# Altium schematic symbol library MOS-FET.SchLib: 71 symbols
Pins are listed as number, name and electrical type; pins without a type are passive.

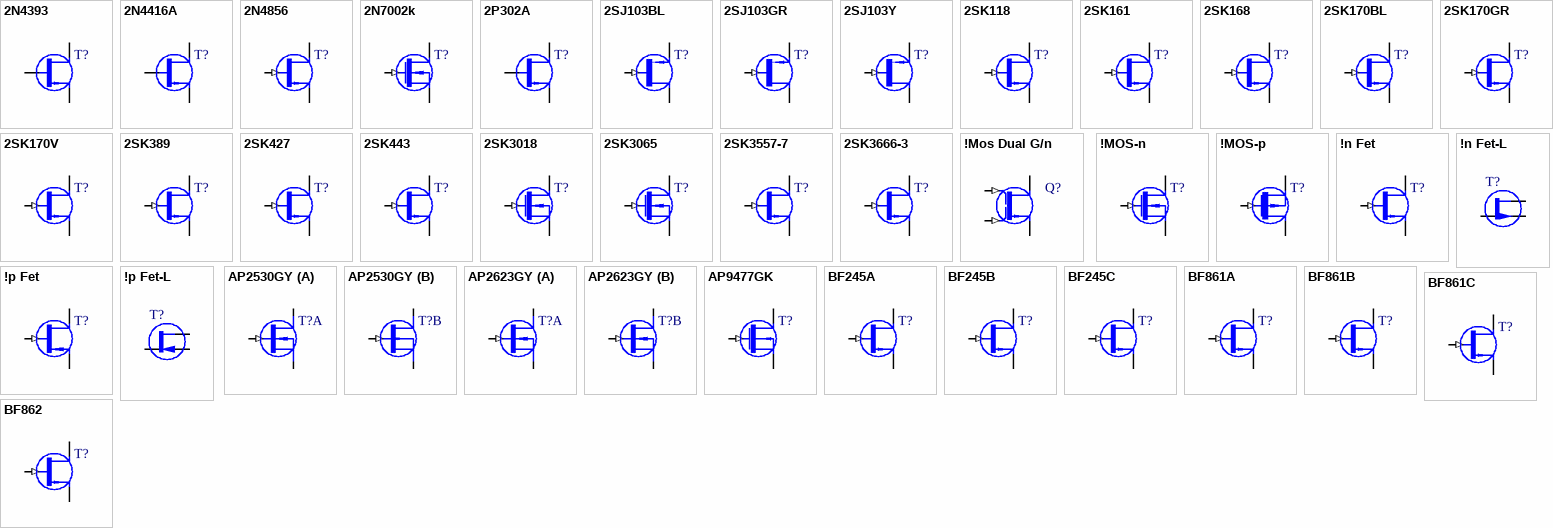
[diagram p0: symbols 2N4393 to BF862]

## 2N4393
designator T?
N-JFET 0.5-3V 100om 5-30mA 3.5p 40V; price: 0.5
footprint TO92C
simulation model J2N4393 (MODEL)
footprint TO92
pins: 1 S (oe), 2 D (oc), 3 G
1 alternate drawing of the same symbol

## 2N4416A
designator T?
N-JFET 2.5-6V 100om 5-15mA 0.8p 35V; price: 0.5
footprint TO92C
simulation model J2N4416A (MODEL)
footprint TO92
pins: 1 S (oe), 2 D (oc), 3 G
1 alternate drawing of the same symbol

## 2N4856
designator T?
N-JFET 4-10V  25om 50-125mA 3p 40V; price: 0.5
footprint TO92C
simulation model J2N4856 (MODEL)
footprint TO92
pins: 1 S (oe), 2 D (oc), 3 G (in)
1 alternate drawing of the same symbol

## 2N7002k
designator T?
N-MOS 60V 7.5om 0.115mA; price: 0.04
footprint SOT23
simulation model 2N7002k (SubCkt)
pins: 1 G (in), 2 S (oe), 3 D (oc)

## 2P302A
designator T?
N-JFET 5V  3-24mA 8p 20V; price: 0.5
footprint TO92C
simulation model 2P302A (MODEL)
footprint TO92
pins: 1 S (oe), 2 D (oc), 3 G
1 alternate drawing of the same symbol

## 2SJ103BL
designator T?
P-JFET 50V 6-14mA 4mS Ci-18p Cr-3.6p; price: 0.5
footprint TO92C1
simulation model 2SJ103BL (Model Description)
pins: 1 S (oe), 2 G (in), 3 D (oc)
1 alternate drawing of the same symbol

## 2SJ103GR
designator T?
P-JFET 50V 2.6-6.5mA 4mS Ci-18p Cr-3.6p; price: 0.5
footprint TO92C1
simulation model 2SJ103GR (Model Description)
pins: 1 S (oe), 2 G (in), 3 D (oc)
1 alternate drawing of the same symbol

## 2SJ103Y
designator T?
P-JFET 50V 1.2-3mA 4mS Ci-18p Cr-3.6p; price: 0.5
footprint TO92C1
simulation model 2SJ103Y (Model Description)
pins: 1 S (oe), 2 G (in), 3 D (oc)
1 alternate drawing of the same symbol

## 2SK118
designator T?
N-JFET 50V 0.3-6mA 1.2mS Ci-8.2p Cr-2.6p 0.5dB; price: 1
footprint E-Line 2.54
pins: 1 S (oe), 2 G (in), 3 D (oc)
1 alternate drawing of the same symbol

## 2SK161
designator T?
N-JFET 18V 10mA 9mS Ci-6p Cr-0.1p 2.5dB(100MHz); price: 1
footprint E-Line-F
pins: 1 G (in), 2 S (oe), 3 D (oc)
1 alternate drawing of the same symbol

## 2SK168
designator T?
N-JFET 0.5V 4-20mA 0.1p; price: 0.5
footprint TO92CF
pins: 1 D (oc), 2 S (oe), 3 G (in)
1 alternate drawing of the same symbol

## 2SK170BL
designator T?
N-JFET 40V 6-12mA 22mS Ci-30p Cr-6p 0.5dB; price: 1
footprint SOT23 (SOT-23; 3 Leads; Body 3.0 x 2.6 mm Pitch 0.95mm)
simulation model 2SK170BL (Model Description)
pins: 1 S (oe), 2 D (oc), 3 G (in)
1 alternate drawing of the same symbol

## 2SK170GR
designator T?
N-JFET 40V 2.6-6.5mA 22mS Ci-30p Cr-6p 0.5dB; price: 1
footprint SOT23 (http://www.nxp.com/acrobat_download/packages/SOT23.pdf)
simulation model 2SK170GR (Model Description)
pins: 1 S (oe), 2 D (oc), 3 G (in)
1 alternate drawing of the same symbol

## 2SK170V
designator T?
N-JFET 40V 10-20mA 22mS Ci-30p Cr-6p 0.5dB; price: 1
footprint SOT23 (SOT-23; 3 Leads; Body 3.0 x 2.6 mm Pitch 0.95mm)
simulation model 2SK170V (Model Description)
pins: 1 S (oe), 2 D (oc), 3 G (in)
1 alternate drawing of the same symbol

## 2SK389
designator T?
N-JFET 15V 50mA 30mS Ci-9p Cr-2.8p 1dB; price: 1
footprint SOT23 (http://www.nxp.com/acrobat_download/packages/SOT23.pdf)
simulation model J2SK389 (Model Description)
pins: 1 S (oe), 2 D (oc), 3 G (in)
1 alternate drawing of the same symbol

## 2SK427
designator T?
N-JFET 15V 20mA 17mS Ci-7p Cr-2p 1.5dB; price: 1
footprint E-Line 2.54
simulation model J2sk427 (Model Description)
pins: 1 S (oe), 2 G (in), 3 D (oc)
1 alternate drawing of the same symbol

## 2SK443
designator T?
N-JFET 15V 50mA 30mS Ci-9p Cr-2.8p 1dB; price: 1
footprint SOT23
simulation model J2SK443 (Model Description)
pins: 1 S (oe), 2 D (oc), 3 G (in)
1 alternate drawing of the same symbol

## 2SK3018
designator T?
N-MOS 30V 0.1A 7om 0.8-1.5V 4pF; Price: 0.1
footprint SOT323 (SOT-323/SC-70; 3 Leads; Body 2.2 x 2.2 mm, inc. leads (LxW max))
simulation model Q2SK3018 (Model Description)
pins: 1 G (in), 2 S (oe), 3 D (oc)

## 2SK3065
designator T?
N-MOS 60V 2A 0.25oM/4V 0.35oM/2.5V; price: 0.7
footprint SOT89 (SC-62)
pins: 1 G (in), 2 D (oc), 3 S (oe)

## 2SK3557-7
designator T?
N-JFET 15V 50mA 35mS Ci-10p Cr-2.9p 1dB; price: 1
footprint SOT23 (Footprint not found)
pins: 1 S (oe), 2 D (oc), 3 G (in)
1 alternate drawing of the same symbol

## 2SK3666-3
designator T?
N-JFET 30V 1.2-3mA 3-6.5mS Ci-4p Cr-1.1p; price: 1
footprint SOT23
pins: 1 S (oe), 2 D (oc), 3 G (in)
1 alternate drawing of the same symbol

## !Mos Dual G/n
designator Q?
N-MOS Dual gate
footprint TO50-4-100
pins: 1 S (oe), 2 G1 (in), 3 G2 (in), 4 D (oc)

## !MOS-n
designator T?
P-MOS
footprint TO220-1A 2.54
pins: 1 G (in), 2 D (oc), 3 S (oe)

## !MOS-p
designator T?
P-MOS
footprint TO220-1A 2.54
pins: 1 G (in), 2 D (oc), 3 S (oe)

## !n Fet
designator T?
N-JFET; price: 0.5
footprint TO92C
pins: 1 S (oe), 2 G (in), 3 D (oc)
1 alternate drawing of the same symbol

## !n Fet-L
designator T?
N-JFET
footprint TO92C
pins: 1 S, 2 G, 3 D

## !p Fet
designator T?
P-JFET; price: 0.5
footprint TO92C1
pins: 1 S (oe), 2 G (in), 3 D (oc)

## !p Fet-L
designator T?
P-JFET
footprint TO92C
pins: 1 S, 2 G, 3 D

## AP2530GY
designator T?
n/p MOS 30V 3.3/2.3A 72/150mom 4.5V; Price: 0.54
footprint SOT26 (SOT-457/SC-74; 6 Leads; Body 3.1 x 2.6 mm, inc. leads (LxW max))
part A pins: 1 G (in), 5 S (oe), 6 D (oc)
part B pins: 2 S (oe), 3 G (in), 4 D (oc)

## AP2623GY
designator T?
2PMOS 30V 2A 170mom 4.5V 32pF; Price: 0.54
footprint SOT26 (SOT-457/SC-74; 6 Leads; Body 3.1 x 2.6 mm, inc. leads (LxW max))
part A pins: 1 G (in), 5 S (oe), 6 D (oc)
part B pins: 2 S (oe), 3 G (in), 4 D (oc)

## AP9477GK
designator T?
N-MOS 60V 0.09oM 4.1A; Price: 0.58
footprint SOT223 (SOT-223/SC-73; 4 Leads; Body 6.7 x 7.3 mm, inc. leads (LxW max))
pins: 1 G (in), 2 D (oc), 3 S (oe)

## BF245A
designator T?
N-JFET 0.5-3V 100om 5-30mA 3.5p 30V; price: 0.5
footprint TO92CF
simulation model BF245A (MODEL)
pins: 1 D (oc), 2 S (oe), 3 G (in)
1 alternate drawing of the same symbol

## BF245B
designator T?
N-JFET 0.5-3V 100om 5-30mA 3.5p 30V; price: 0.5
footprint TO92CF
simulation model BF245B (MODEL)
pins: 1 D (oc), 2 S (oe), 3 G (in)
1 alternate drawing of the same symbol

## BF245C
designator T?
N-JFET 0.5-3V 100om 5-30mA 3.5p 30V; price: 0.5
footprint TO92CF
simulation model BF245C (MODEL)
pins: 1 D (oc), 2 S (oe), 3 G (in)
1 alternate drawing of the same symbol

## BF861A
designator T?
N-JFET 2-6.5mA 12-20mS Ci-10p Cr-2.7p 1.5nV/Hz 25V; price: 1
footprint SOT23
simulation model BF861A (Model Description)
pins: 1 S (oe), 2 D (oc), 3 G (in)
1 alternate drawing of the same symbol

## BF861B
designator T?
N-JFET 6-15mA 16-25mS Ci-10p Cr-2.7p 1.5nV/Hz 25V; price: 1
footprint SOT23
simulation model BF861B (Model Description)
pins: 1 S (oe), 2 D (oc), 3 G (in)
1 alternate drawing of the same symbol

## BF861C
designator T?
N-JFET 12-25mA 20-30mS Ci-10p Cr-2.7p 1.5nV/Hz 25V; price: 1
footprint SOT23
simulation model BF861C (Model Description)
pins: 1 S (oe), 2 D (oc), 3 G (in)
1 alternate drawing of the same symbol

## BF862
designator T?
N-JFET 25mA 45mS Ci-10p Cr-1.9p 0.8nV/Hz 20V; price: 1
footprint SOT23
simulation model BF862 (Model Description)
pins: 1 S (oe), 2 D (oc), 3 G (in)
1 alternate drawing of the same symbol

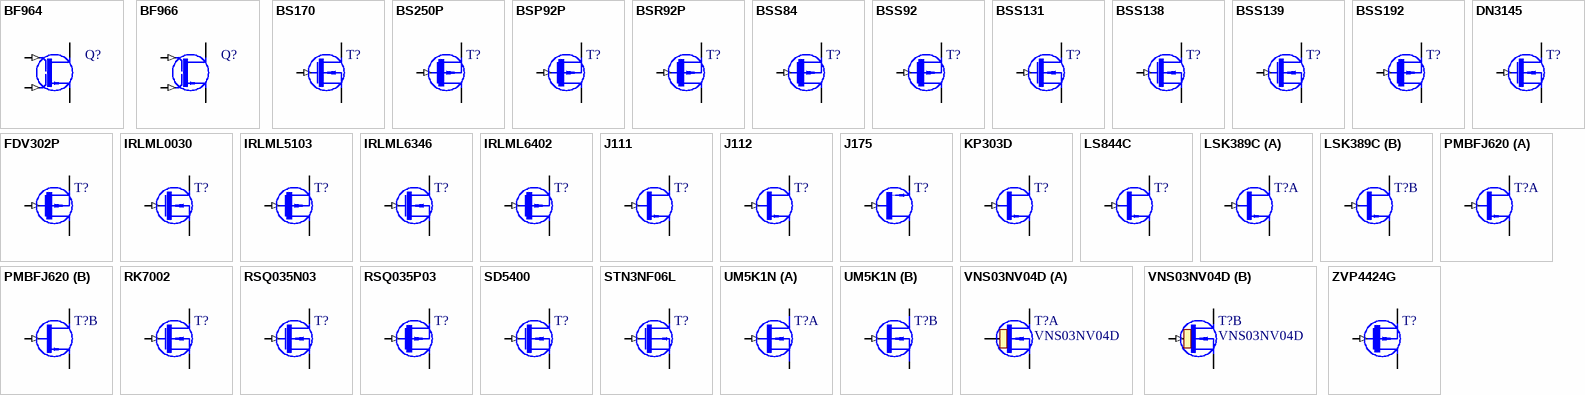
[diagram p1: symbols BF964 to ZVP4424G]

## BF964
designator Q?
N-Mos Dual gate 18.5mS 1dB (200MHz); Price: 0.4
footprint TO50-4-100
footprint TO50-4-150
pins: 1 S (oe), 2 G1 (in), 3 G2 (in), 4 D (oc)

## BF966
designator Q?
N-Mos Dual gate 18.5mS 1.8dB (800MHz); Price: 0.1
footprint TO50-4-100
footprint TO50-4-150
pins: 1 S (oe), 2 D (oc), 3 G2 (in), 4 G1 (in)

## BS170
designator T?
N-MOS 60V  2.1oM 0.5A; Price: 0.18
footprint TO92C
simulation model PMBF170 (Model Description)
pins: 1 S (oe), 2 G (in), 3 D (oc)

## BS250P
designator T?
P-MOS 55V 14oM 0.23mA; price: 0.4
footprint E-Line 2.54
simulation model BS250P (Model Description)
pins: 1 S (oe), 2 G (in), 3 D (oc)

## BSP92P
designator T?
P-MOS 240V 11oM 0.26mA; Price: 0.94
footprint SOT223 (SOT-223/SC-73; 4 Leads; Body 6.7 x 7.3 mm, inc. leads (LxW max))
pins: 1 G (in), 2 D (oc), 3 S (oe)

## BSR92P
designator T?
P-MOS 250V 11oM 0.14mA; Price: 0.94
footprint SOT23
pins: 1 G (in), 2 S (oe), 3 D (oc)

## BSS84
designator T?
P-MOS 50V 10oM 0.13mA; Price: 0.07
footprint SOT23
simulation model BSS84 (Model Description)
pins: 1 G (in), 2 S (oe), 3 D (oc)

## BSS92
designator T?
P-MOS 240V 20oM 0.15mA; Price: x
footprint TO92CD
simulation model BSS-92 (Model Description)
pins: 1 G (in), 2 D (oc), 3 S (oe)

## BSS131
designator T?
N-MOS 240V 0.1A 14om (0.8 -1.8)V 2.8pF; Price: 0.17
footprint SOT23
pins: 1 G (in), 2 S (oe), 3 D (oc)

## BSS138
designator T?
N-MOS 50V 0.22A 3.5om 0.8-1.6V 6pF; Price: 0.1
footprint SOT23
simulation model BSS-138 (Model Description)
pins: 1 G (in), 2 S (oe), 3 D (oc)

## BSS139
designator T?
N-MOS 250V 0.1A 30om (-1 -2.1)V 3pF; Price: 0.74
footprint SOT23
simulation model BSS139_L0 (Model Description)
pins: 1 G (in), 2 S (oe), 3 D (oc)

## BSS192
designator T?
P-MOS 240V 12oM 0.2A; Price: 1
footprint SOT89 (SC-62)
pins: 1 G (in), 2 D (oc), 3 S (oe)

## DN3145
designator T?
N-MOS 450V 0.12A 60oM SMD SOT89
footprint SOT89 (SC-62)
pins: 1 G (in), 2 D (oc), 3 S (oe)

## FDV302P
designator T?
P-MOS 25V 0.12A 10om; Price: 0.32
footprint SOT23
simulation model FDV302P (SUBCKT)
pins: 1 G (in), 2 S (oe), 3 D (oc)

## IRLML0030
designator T?
N-MOS 30V 5.3A 27m(10V) 40m(4.5V); Price: 0.2
footprint SOT23
pins: 1 G (in), 2 S (oe), 3 D (oc)

## IRLML5103
designator T?
P-MOS 30V 0.7A 0.6 Om; Price: 0.21
footprint SOT23
simulation model IRLML5103 (Model Description)
pins: 1 G (in), 2 S (oe), 3 D (oc)

## IRLML6346
designator T?
N-MOS 30V 3.4A 63m; Price: 0.77
footprint SOT23
simulation model IRLMLl6346 (Model Description)
pins: 1 G (in), 2 S (oe), 3 D (oc)

## IRLML6402
designator T?
P-MOS 20V 3.7A 65m; Price: 1.04
footprint SOT23
simulation model IRLML6402 (Model Description)
pins: 1 G (in), 2 S (oe), 3 D (oc)

## J111
designator T?
N-JFET 3-10V 30om 20mA 5p 30V; price: 0.5
footprint TO92CF
simulation model J111 (MODEL)
pins: 1 D (oc), 2 S (oe), 3 G (in)
1 alternate drawing of the same symbol

## J112
designator T?
N-JFET 1-5V   50om   5mA 5p 30V; price: 0.5
footprint TO92CF
simulation model J112 (MODEL)
pins: 1 D (oc), 2 S (oe), 3 G (in)
1 alternate drawing of the same symbol

## J175
designator T?
P-JFet 3-6V 7-60mA 125om 30V; price: 0.5
footprint TO92C1
simulation model J175 (Model Description)
pins: 1 S (oe), 2 G (in), 3 D (oc)
1 alternate drawing of the same symbol

## KP303D
designator T?
N-JFET 30V 20mA 3mS Ci-10p Cr-2p 20nV/Hz; price: 1
footprint TO92
simulation model KP303D (Model Description)
pins: 1 S (oe), 2 D (oc), 3 G (in)
1 alternate drawing of the same symbol

## LS844C
designator T?
N-JFET 5mA 1.5mS Ci-8p Cr-3p 3nV/Hz 60V; price: 1
footprint SOT23
simulation model JF201_5 (Model Description)
pins: 1 S (oe), 2 D (oc), 3 G (in)
1 alternate drawing of the same symbol

## LSK389C
designator T?
2N-JFET 40V 50mA 20mS Ci-10p Cr-5.5p 1nV/Hz; price: 1
simulation model LSK389C (Model Description)
footprint SO8-150
part A pins: 1 S (oe), 2 D (oc), 3 SS hidden, 4 G (in)
part B pins: 5 S (oe), 6 D (oc), 7 SS hidden, 8 G (in)

## PMBFJ620
designator T?
2N-JFET 25V 24-60mA 50om 10mS/10mA Ci-3p Cr-1.5p 6nV/Hz; price: 1
footprint SOT363 (SOT-363/SC-88; 6 Leads; Body 2.2 x 2.2 mm, inc. leads (LxW max))
part A pins: 2 S (oe), 3 G (in), 4 D (oc)
part B pins: 1 S (oe), 5 D (oc), 6 G (in)
1 alternate drawing of the same symbol

## RK7002
designator T?
N-MOS 60V 7.5om 0.115mA; price: 0.17
footprint SOT23
simulation model 2N7002 (SubCkt)
pins: 1 G (in), 2 S (oe), 3 D (oc)

## RSQ035N03
designator T?
N-MOS 30V 0.06oM 3.5A; price: 0.41
footprint SOT23-6
pins: 1 D (oc), 2 D (oc), 3 G (in), 4 S (oe), 5 D (oc), 6 D (oc)

## RSQ035P03
designator T?
P-MOS 30V 0.06oM 3.5A; price: 0.41
footprint SOT23-6
simulation model RSQ035P03 (Model Description)
pins: 1 D (oc), 2 D (oc), 3 G (in), 4 S (oe), 5 D (oc), 6 D (oc)

## SD5400
designator T?
N-MOS 60V 7.5om 0.115mA; price: x
footprint SOT23
simulation model SD5400 (Model Description)
pins: 1 G (in), 2 S (oe), 3 D (oc)

## STN3NF06L
designator T?
N-MOS 60V 0.1oM 4A; Price: 1
footprint SOT223 (SOT-223/SC-73; 4 Leads; Body 6.7 x 7.3 mm, inc. leads (LxW max))
pins: 1 G (in), 2 D (oc), 3 S (oe)

## UM5K1N
designator T?
2N-MOS 30V 0.1A 7om 0.8-1.5V 4pF; Price: 0.15
footprint SOT353 (SOT-353/SC-88A; 5 Leads; Body 2.2 x 2.2 mm, inc. leads (LxW max))
simulation model Q2SK3018 (Model Description)
part A pins: 1 G (in), 2 S (oe), 5 D (oc)
part B pins: 2 S (oe), 3 G (in), 4 D (oc)

## VNS03NV04D
designator T?
footprint SO8-150
part A pins: 1 S1 (oe), 2 In1, 7 D1, 8 D1 (oc)
part B pins: 3 S2 (oe), 4 In2 (in), 5 D2 (oc), 6 D2 (oc)

## ZVP4424G
designator T?
P-MOS 240V 8.8oM 0.48mA; Price: 1.25
footprint SOT223 (SOT-223/SC-73; 4 Leads; Body 6.7 x 7.3 mm, inc. leads (LxW max))
simulation model ZVP4424A (Model Description)
pins: 1 G (in), 2 D (oc), 3 S (oe)